# Altium footprint library ANT.PcbLib: 8 footprints
Each footprint in its own frame and in the unit in brackets; x right, y up, seen from the top. Pads: shape width x height; smd on the part's side, far side on the other; paste and mask are expansions set on the pad; w line width, h text height; cw(c..) or ccw(c..) is an arc to the next point about the centre after c.
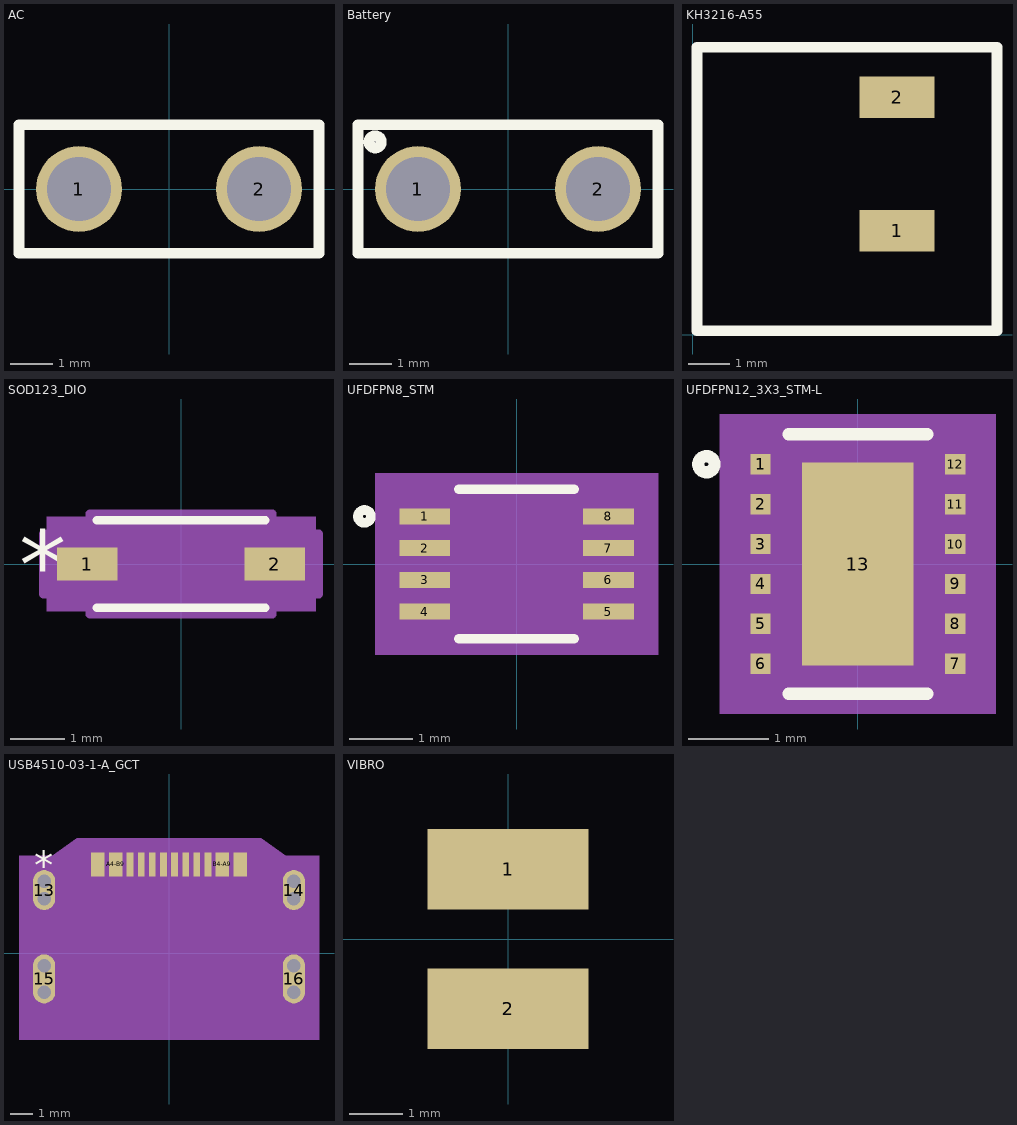
[diagram p0: the footprints below, top view; thin cyan lines are the x and y axes]

## AC [mm]
pads (2):
  round 2 hole 1.5: 1(-2.1,0) 2(2.1,0)
Top Overlay:
  lines w0.254: -3.5,-1.5 -3.5,1.5 3.5,1.5 3.5,-1.5 -3.5,-1.5

## Battery [mm]
pads (2):
  round 2 hole 1.5: 1(-2.1,0) 2(2.1,0)
Top Overlay:
  circle w0.254: c-3.1,1.1 r0.141
  lines w0.254: -3.5,-1.5 -3.5,1.5 3.5,1.5 3.5,-1.5 -3.5,-1.5

## KH3216-A55 [mm]
pads (2):
  rect 1.8x1 smd: 1(4.9,2.5) 2(4.9,5.7)
Top Overlay:
  lines w0.254: 0.1,0.1 0.1,6.9 7.3,6.9 7.3,0.1 0.1,0.1

## SOD123_DIO [mm]
pads (2):
  rect 1.111x0.601 smd paste+0 mask+0: 1(-1.725,0) 2(1.725,0)
Top Overlay:
  lines w0.152: -1.552,-0.802 1.552,-0.802 ; -1.552,0.802 1.552,0.802
  text "*" at -2.979,-0.635 h1.27
Mechanical 5:
  region: 2.471,-0.865 -2.471,-0.865 -2.471,0.865 2.471,0.865
Mechanical 13:
  lines w0.025: -1.425,-0.337 -1.087,-0.675 ; -1.425,0.337 -1.087,0.675 ; -1.925,-0.275 -1.925,0.275 -1.425,0.275 -1.425,-0.275 -1.925,-0.275 ; -1.425,-0.675 1.425,-0.675 1.425,0.675 -1.425,0.675 -1.425,-0.675 ; 1.425,-0.275 1.425,0.275 1.925,0.275 1.925,-0.275 1.425,-0.275
  text "*" at -1.488,-0.635 h1.27
Mechanical 15:
  region: -1.679,-0.554 -2.535,-0.554 -2.535,0.554 -1.679,0.554 -1.679,0.929 1.679,0.929 1.679,0.554 2.535,0.554 2.535,-0.554 1.679,-0.554 1.679,-0.929 -1.679,-0.929
  lines w0.152: -2.535,-0.554 -2.535,0.554 -1.679,0.554 -1.679,0.929 1.679,0.929 1.679,0.554 2.535,0.554 2.535,-0.554 1.679,-0.554 1.679,-0.929 -1.679,-0.929 -1.679,-0.554 -2.535,-0.554
3D body "SOD123_DIO.step": height 0.81, standoff 0, extent -1.925,-0.675 1.925,0.675

## UFDFPN8_STM [mil]
pads (8):
  rect 31.51x9.83 smd paste+0 mask+0: 1(-57.06,29.55) 2(-57.06,9.85) 3(-57.06,-9.85) 4(-57.06,-29.55) 5(57.06,-29.55) 6(57.06,-9.85) 7(57.06,9.85) 8(57.06,29.55)
Top Overlay:
  circle w6: c-94.51,29.55 r4
  lines w6: -35.79,-46.35 35.79,-46.35 ; -35.79,46.35 35.79,46.35
Mechanical 5:
  region: 87.81,-56.35 -87.81,-56.35 -87.81,56.35 87.81,56.35
Mechanical 13:
  circle w0: c-41.3,29.55 r3
  lines w0: -12,41.35 ccw(c0,41.35) 12,41.35
  lines w1: -61,-41.35 61,-41.35 61,41.35 -61,41.35 -61,-41.35
Mechanical 15:
  region: -71,-44.47 -82.81,-44.47 -82.81,44.47 -71,44.47 -71,51.35 71,51.35 71,44.47 82.81,44.47 82.81,-44.47 71,-44.47 71,-51.35 -71,-51.35
  lines w6: -82.81,-44.47 -82.81,44.47 -71,44.47 -71,51.35 71,51.35 71,44.47 82.81,44.47 82.81,-44.47 71,-44.47 71,-51.35 -71,-51.35 -71,-44.47 -82.81,-44.47
3D body "UFDFPN8_STM.step": height 23.7, standoff 0, extent -60.98,-41.34 60.98,41.34

## UFDFPN12_3X3_STM-L [mil]
pads (13):
  rect 10.06x10.03 smd paste+0 mask+0: 1(-48,49.21) 2(-48,29.53) 3(-48,9.84) 4(-48,-9.84) 5(-48,-29.53) 6(-48,-49.21) 7(48,-49.21) 8(48,-29.53) 9(48,-9.84) 10(48,9.84) 11(48,29.53) 12(48,49.21)
  rect 55x100 smd paste+0 mask+0: 13(0,0)
Top Overlay:
  circle w6: c-74.72,49.21 r4
  lines w6: -34.24,-64 34.24,-64 ; -34.24,64 34.24,64
Top Paste:
  region: 23.56,-3.94 -23.56,-3.94 -23.56,-46.06 23.56,-46.06
  region: 23.56,46.06 -23.56,46.06 -23.56,3.94 23.56,3.94
Mechanical 5:
  region: 68.03,-74 -68.03,-74 -68.03,74 68.03,74
Mechanical 13:
  circle w0: c-42.97,49.21 r3
  lines w0: -12,59 ccw(c0,59) 12,59
  lines w1: -59,-59 -59,59 59,59 59,-59 -59,-59
Mechanical 15:
  region: -63,-58.23 -63,58.23 -63,63 63,63 63,58.23 63,-58.23 63,-63 -63,-63
  lines w6: -63,-63 63,-63 63,-58.23 63,58.23 63,63 -63,63 -63,58.23 -63,-58.23 -63,-63
3D body "UFDFPN12_3X3_STM.step": height 24.09, standoff 0, extent -59.02,-59.02 59.02,59.02

## USB4510-03-1-A_GCT [mil]
pads (24):
  oval 39x71 smd: 13(-221.25,112.25) 14(221.25,112.25)
  oval 39x87 smd: 15(-221.25,-45.2) 16(221.25,-45.2)
  rect 24x43 smd paste+0 mask+0: A1-B12(-126,157.5) A4-B9(-94.5,157.5) B1-A12(126,157.5) B4-A9(94.5,157.5)
  rect 12x43 smd paste+0 mask+0: A5(-49.2,157.5) A6(-9.8,157.5) A7(9.9,157.5) A8(49.3,157.5) B5(69,157.5) B6(29.6,157.5) B7(-29.5,157.5) B8(-69,157.5)
  round 24 hole 24 unplated: S_1_H1(-221.25,127.75) S_1_H2(-221.25,96.75) S_2_H1(221.25,127.75) S_2_H2(221.25,96.75) S_3_H1(-221.25,-21.7) S_3_H2(-221.25,-68.7) S_4_H1(221.25,-21.7) S_4_H2(221.25,-68.7)
Top Overlay:
  text "*" at -238.5,132.5 h50
Mechanical 5:
  region: 163,204 -163,204 -206.75,172.75 -265.75,172.75 -265.75,-153 265.75,-153 265.75,172.75 206.75,172.75
Mechanical 13:
  lines w1: -176,-128 -176,128 176,128 176,-128
  text "*" at -238.5,132.5 h50
Mechanical 15:
  region: 158,199 -158,199 -201.75,167.75 -260.75,167.75 -260.75,-148 260.75,-148 260.75,167.75 201.75,167.75
  lines w6: -260.75,-148 260.75,-148 260.75,167.75 201.75,167.75 158,199 -158,199 -201.75,167.75 -260.75,167.75 -260.75,-148
Multi-Layer:
  lines w1: -176,-128 176,-128 ; -240.75,-128 240.75,-128 240.75,-108.2 182,-108.2 182,136 -182,136 -182,-108.2 -240.75,-108.2 -240.75,-128
  lines w24: -221.25,-68.7 -221.25,-21.7 ; -221.25,96.75 -221.25,127.75 ; 221.25,-68.7 221.25,-21.7 ; 221.25,96.75 221.25,127.75
3D body: height 10, standoff 0, extent 0,0 10,10

## VIBRO [mm]
pads (2):
  rect 3x1.5 smd: 1(0,1.3) 2(0,-1.3)